# EAGLE library part PIC12LF1552 (library project)
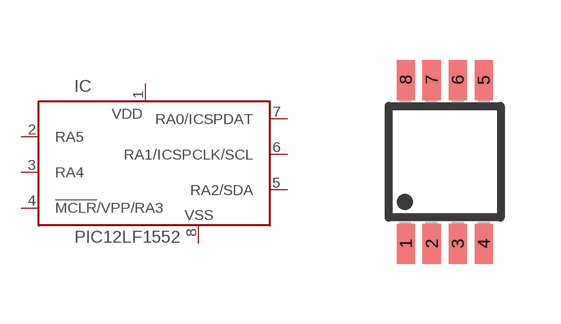
[diagram p2: symbol with the pads of MSOP8; footprint MSOP8]

Designator prefix IC

## PIC12LF1552  [MSOP8]
1  VDD  pwr
2  RA5
3  RA4
4  !MCLR!/VPP/RA3  in
5  RA2/SDA
6  RA1/ICSPCLK/SCL
7  RA0/ICSPDAT
8  VSS  pwr

## Footprint MSOP8 (pad centres in mm)
smd 0.45 x 1: 1 -0.975,-2.05; 2 -0.325,-2.05; 3 0.325,-2.05; 4 0.975,-2.05; 5 0.975,2.05; 6 0.325,2.05; 7 -0.325,2.05; 8 -0.975,2.05